# Altium footprint library AMPHENOL_G8250041000YEU.PcbLib: 1 footprints
Each footprint in its own frame and in the unit in brackets; x right, y up, seen from the top. Pads: shape width x height; smd on the part's side, far side on the other; paste and mask are expansions set on the pad; w line width, h text height; cw(c..) or ccw(c..) is an arc to the next point about the centre after c.
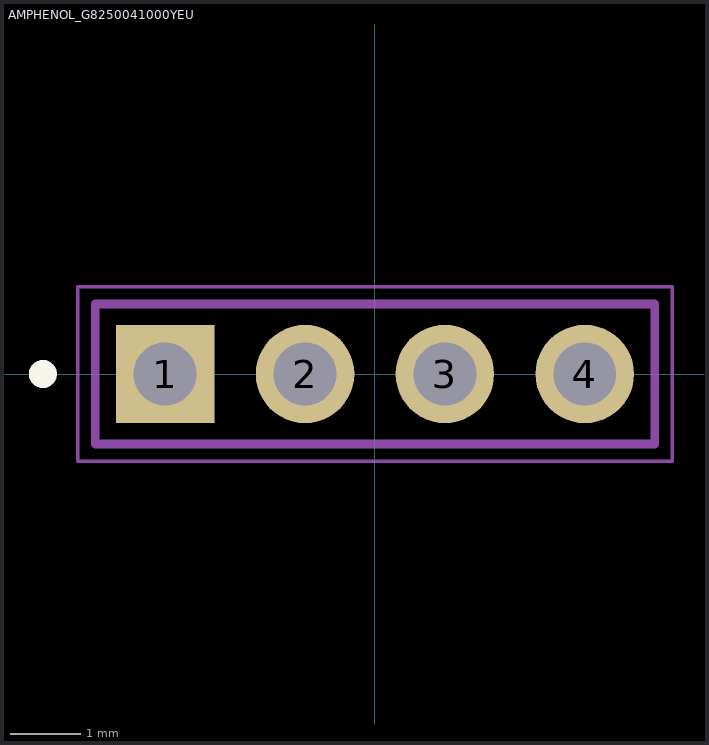
[diagram p0: the footprint, top view; thin cyan lines are the x and y axes]

## AMPHENOL_G8250041000YEU [mm]
height 6.35
pads (4):
  rect 1.408x1.408 hole 0.9: 1(-3,0)
  round 1.408 hole 0.9: 2(-1,0) 3(1,0) 4(3,0)
Top Overlay:
  circle w0.2: c-4.75,0 r0.1
Mechanical 13:
  circle w0.2: c-4.75,0 r0.1
  lines w0.127: -4,-1 -4,1 4,1 4,-1 -4,-1
Mechanical 15:
  lines w0.05: -4.25,-1.25 4.25,-1.25 4.25,1.25 -4.25,1.25 -4.25,-1.25